# EAGLE library part M0159S (library Nuvoton)
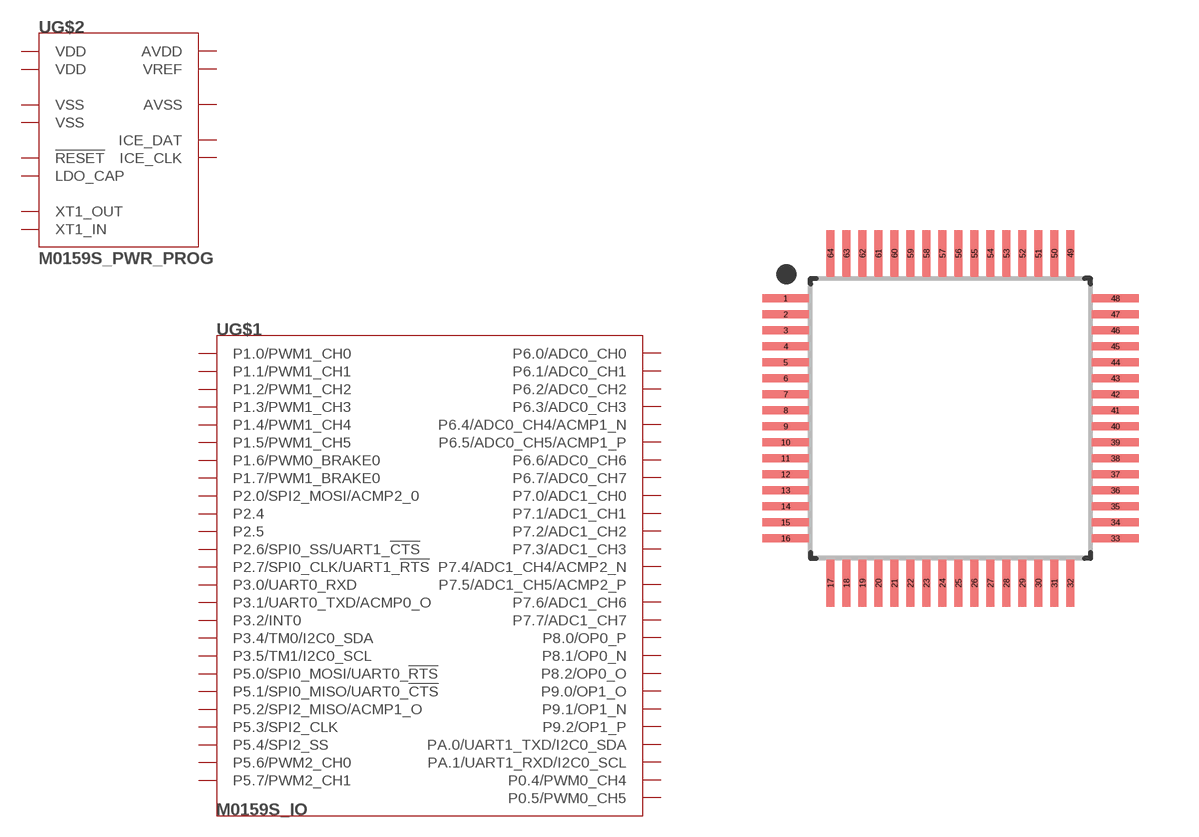
[diagram p0: symbol with the pads of LQFP-64_7MMX7MMX1.6MM; footprint LQFP-64_7MMX7MMX1.6MM]

Designator prefix U; gates G$1=M0159S_IO G$2=M0159S_PWR_PROG

## M0159S  [LQFP-64_7MMX7MMX1.6MM]
1  G$1:P3.5/TM1/I2C0_SCL
2  G$1:P3.4/TM0/I2C0_SDA
3  G$1:P3.2/INT0
4  G$1:P1.7/PWM1_BRAKE0
5  G$2:LDO_CAP  pwr
6  G$2:VDD  pwr
7  G$2:VSS  pwr
8  G$1:PA.1/UART1_RXD/I2C0_SCL
9  G$1:PA.0/UART1_TXD/I2C0_SDA
10  G$1:P5.7/PWM2_CH1
11  G$1:P5.6/PWM2_CH0
12  G$1:P1.6/PWM0_BRAKE0
13  G$1:P1.5/PWM1_CH5
14  G$1:P1.4/PWM1_CH4
15  G$1:P1.3/PWM1_CH3
16  G$1:P1.2/PWM1_CH2
17  G$1:P1.1/PWM1_CH1
18  G$1:P1.0/PWM1_CH0
19  G$1:P3.0/UART0_RXD
20  G$1:P3.1/UART0_TXD/ACMP0_O
21  G$2:VDD  pwr
22  G$2:VSS  pwr
23  G$1:P5.0/SPI0_MOSI/UART0_!RTS
24  G$1:P5.1/SPI0_MISO/UART0_!CTS
25  G$1:P2.7/SPI0_CLK/UART1_!RTS
26  G$1:P2.6/SPI0_SS/UART1_!CTS
27  G$1:P2.5
28  G$1:P2.4
29  G$1:P0.5/PWM0_CH5
30  G$1:P0.4/PWM0_CH4
31  G$1:P2.0/SPI2_MOSI/ACMP2_0
32  G$1:P5.2/SPI2_MISO/ACMP1_O
33  G$1:P5.3/SPI2_CLK
34  G$1:P5.4/SPI2_SS
35  G$1:P6.7/ADC0_CH7
36  G$1:P6.6/ADC0_CH6
37  G$1:P6.5/ADC0_CH5/ACMP1_P
38  G$1:P6.4/ADC0_CH4/ACMP1_N
39  G$1:P6.3/ADC0_CH3
40  G$1:P6.2/ADC0_CH2
41  G$1:P6.1/ADC0_CH1
42  G$1:P6.0/ADC0_CH0
43  G$1:P8.2/OP0_O
44  G$1:P8.1/OP0_N
45  G$1:P8.0/OP0_P
46  G$2:AVSS  pwr
47  G$2:AVDD  pwr
48  G$2:VREF  pwr
49  G$1:P7.7/ADC1_CH7
50  G$1:P7.6/ADC1_CH6
51  G$1:P7.5/ADC1_CH5/ACMP2_P
52  G$1:P7.4/ADC1_CH4/ACMP2_N
53  G$1:P7.3/ADC1_CH3
54  G$1:P7.2/ADC1_CH2
55  G$1:P7.1/ADC1_CH1
56  G$1:P7.0/ADC1_CH0
57  G$1:P9.0/OP1_O
58  G$1:P9.1/OP1_N
59  G$1:P9.2/OP1_P
60  G$2:!RESET
61  G$2:XT1_OUT
62  G$2:XT1_IN
63  G$2:ICE_DAT
64  G$2:ICE_CLK

## Footprint LQFP-64_7MMX7MMX1.6MM (pad centres in mm)
64-QFP, 0.40 mm pitch, 9.00 mm span, 7.00 X 7.00 X 1.60 mm body 64-pin QFP package with 0.40 mm pitch, 9.00 mm lead span1 X 9.00 mm lead span2 with body size 7.00 X 7.00 X 1.60 mm
smd 1.172 x 0.204: 1 -4.122,3; 2 -4.122,2.6; 3 -4.122,2.2; 4 -4.122,1.8; 5 -4.122,1.4; 6 -4.122,1; 7 -4.122,0.6; 8 -4.122,0.2; 9 -4.122,-0.2; 10 -4.122,-0.6; 11 -4.122,-1; 12 -4.122,-1.4; 13 -4.122,-1.8; 14 -4.122,-2.2; 15 -4.122,-2.6; 16 -4.122,-3; 33 4.122,-3; 34 4.122,-2.6; 35 4.122,-2.2; 36 4.122,-1.8; 37 4.122,-1.4; 38 4.122,-1; 39 4.122,-0.6; 40 4.122,-0.2; 41 4.122,0.2; 42 4.122,0.6; 43 4.122,1; 44 4.122,1.4; 45 4.122,1.8; 46 4.122,2.2; 47 4.122,2.6; 48 4.122,3
smd 0.204 x 1.172: 17 -3,-4.122; 18 -2.6,-4.122; 19 -2.2,-4.122; 20 -1.8,-4.122; 21 -1.4,-4.122; 22 -1,-4.122; 23 -0.6,-4.122; 24 -0.2,-4.122; 25 0.2,-4.122; 26 0.6,-4.122; 27 1,-4.122; 28 1.4,-4.122; 29 1.8,-4.122; 30 2.2,-4.122; 31 2.6,-4.122; 32 3,-4.122; 49 3,4.122; 50 2.6,4.122; 51 2.2,4.122; 52 1.8,4.122; 53 1.4,4.122; 54 1,4.122; 55 0.6,4.122; 56 0.2,4.122; 57 -0.2,4.122; 58 -0.6,4.122; 59 -1,4.122; 60 -1.4,4.122; 61 -1.8,4.122; 62 -2.2,4.122; 63 -2.6,4.122; 64 -3,4.122